# EAGLE library part AD5551 (library MeRCIS Lab Parts)
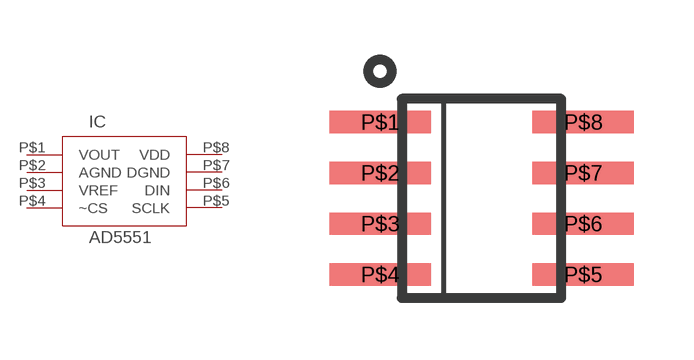
[diagram p0: symbol with the pads of SO-8; footprint SO-8]

Designator prefix IC

## AD5551  [SO-8]
P$1  VOUT  out
P$2  AGND  pwr
P$3  VREF  in
P$4  ~CS  in
P$5  SCLK  in
P$6  DIN  in
P$7  DGND  pwr
P$8  VDD  pwr

## Footprint SO-8 (pad centres in mm)
smd 2.54 x 0.559: P$1 -2.54,1.905; P$2 -2.54,0.635; P$3 -2.54,-0.635; P$4 -2.54,-1.905; P$5 2.54,-1.905; P$6 2.54,-0.635; P$7 2.54,0.635; P$8 2.54,1.905